# Altium footprint library 1N414WT.PcbLib: 3 footprints
Each footprint in its own frame and in the unit in brackets; x right, y up, seen from the top. Pads: shape width x height; smd on the part's side, far side on the other; paste and mask are expansions set on the pad; w line width, h text height; cw(c..) or ccw(c..) is an arc to the next point about the centre after c.
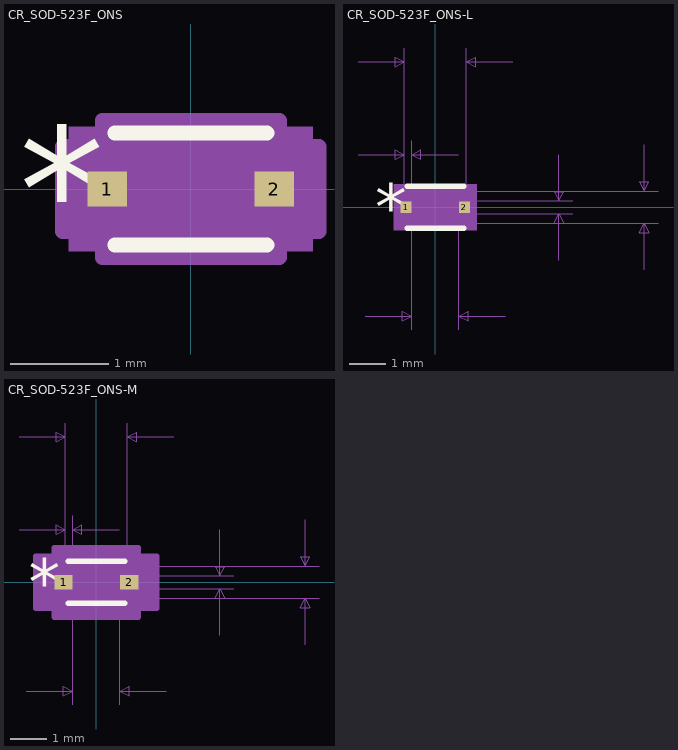
[diagram p0: the footprints below, top view; thin cyan lines are the x and y axes]

## CR_SOD-523F_ONS [mil]
pads (2):
  rect 15.87x14 smd paste+0 mask+0: 1(-33.44,0) 2(33.44,0)
Top Overlay:
  lines w6: -30.5,-22.5 30.5,-22.5 ; -30.5,22.5 30.5,22.5
  text "*" at -68.87,-25 h50
Mechanical 5:
  region: 48.87,-25 -48.87,-25 -48.87,25 48.87,25
Mechanical 13:
  lines w1: -25.5,-8.75 -16.75,-17.5 ; -25.5,8.75 -16.75,17.5 ; -33.5,-7 -25.5,-7 -25.5,7 -33.5,7 -33.5,-7 ; -25.5,-17.5 -25.5,17.5 25.5,17.5 25.5,-17.5 -25.5,-17.5 ; 25.5,-7 33.5,-7 33.5,7 25.5,7 25.5,-7
  text "*" at -28,-25 h50
Mechanical 15:
  region: -35.5,-17 -51.37,-17 -51.37,17 -35.5,17 -35.5,27.5 35.5,27.5 35.5,17 51.37,17 51.37,-17 35.5,-17 35.5,-27.5 -35.5,-27.5
  lines w6: -51.37,-17 -35.5,-17 -35.5,-27.5 35.5,-27.5 35.5,-17 51.37,-17 51.37,17 35.5,17 35.5,27.5 -35.5,27.5 -35.5,17 -51.37,17 -51.37,-17
3D body "CR_SOD-523F_ONS.step": height 28.27, standoff 0, extent -33.5,-17.48 33.51,17.48
3D body: height 10, standoff 0, extent 0,0 10,10

## CR_SOD-523F_ONS-L [mil]
pads (2):
  rect 11.94x12.03 smd paste+0 mask+0: 1(-31.47,0) 2(31.47,0)
Top Overlay:
  lines w6: -30.5,-22.5 30.5,-22.5 ; -30.5,22.5 30.5,22.5
  text "*" at -64.94,-25 h50
Mechanical 5:
  region: 44.94,-25 -44.94,-25 -44.94,25 44.94,25
Mechanical 7:
  lines w1: -83.5,57 -33.5,57 ; -83.5,157 -33.5,157 ; -75.5,-117.5 -25.5,-117.5 ; -33.5,72 -33.5,0 -33.5,172 ; -25.5,-132.5 -25.5,0 -25.5,72 ; 0,-17.5 240.5,-17.5 ; 0,17.5 240.5,17.5 ; 24.5,57 -25.5,57 ; 25.5,-132.5 25.5,0 ; 33.5,-7 148.5,-7 ; 33.5,0 33.5,172 ; 33.5,7 148.5,7 ; 75.5,-117.5 25.5,-117.5 ; 83.5,157 33.5,157 ; 133.5,-57 133.5,-7 ; 133.5,57 133.5,7 ; 225.5,-67.5 225.5,-17.5 ; 225.5,67.5 225.5,17.5 ; -33.5,57 -43.5,62 -43.5,52 -33.5,57 ; -33.5,157 -43.5,162 -43.5,152 -33.5,157 ; -25.5,-117.5 -35.5,-112.5 -35.5,-122.5 -25.5,-117.5 ; -25.5,57 -15.5,62 -15.5,52 -25.5,57 ; 25.5,-117.5 35.5,-112.5 35.5,-122.5 25.5,-117.5 ; 33.5,157 43.5,162 43.5,152 33.5,157 ; 133.5,-7 128.5,-17 138.5,-17 133.5,-7 ; 133.5,7 128.5,17 138.5,17 133.5,7 ; 225.5,-17.5 220.5,-27.5 230.5,-27.5 225.5,-17.5 ; 225.5,17.5 220.5,27.5 230.5,27.5 225.5,17.5
  text "Default Padstyle: r30_31" at -300,-331.02 h50
  text "Alt 1 Padstyle: b152_229h76" at -337.5,-406.02 h50
  text "Alt 2 Padstyle: b229_152h76" at -337.5,-481.02 h50
  text "0.067in/1.702mm" at -93.75,177 h25
  text "0.008in/0.203mm" at -123.25,77 h25
  text "0.014in/0.356mm" at 153.5,-12.5 h25
  text "0.035in/0.889mm" at 245.5,-12.5 h25
  text "0.051in/1.295mm" at -93.75,-162.5 h25
Mechanical 13:
  lines w1: -25.5,-8.75 -16.75,-17.5 ; -25.5,8.75 -16.75,17.5 ; -33.5,-7 -33.5,7 -25.5,7 -25.5,-7 -33.5,-7 ; -25.5,-17.5 25.5,-17.5 25.5,17.5 -25.5,17.5 -25.5,-17.5 ; 25.5,-7 25.5,7 33.5,7 33.5,-7 25.5,-7
  text "*" at -28,-25 h50
Mechanical 15:
  region: -29.5,-10.02 -41.44,-10.02 -41.44,10.02 -29.5,10.02 -29.5,21.5 29.5,21.5 29.5,10.02 41.44,10.02 41.44,-10.02 29.5,-10.02 29.5,-21.5 -29.5,-21.5
  lines w6: -41.44,-10.02 -41.44,10.02 -29.5,10.02 -29.5,21.5 29.5,21.5 29.5,10.02 41.44,10.02 41.44,-10.02 29.5,-10.02 29.5,-21.5 -29.5,-21.5 -29.5,-10.02 -41.44,-10.02
3D body: height 10, standoff 0, extent 0,0 10,10
3D body "CR_SOD-523F_ONS-L.step": height 28.27, standoff 0, extent -33.5,-17.48 33.51,17.48

## CR_SOD-523F_ONS-M [mil]
pads (2):
  rect 19.81x15.97 smd paste+0 mask+0: 1(-35.41,0) 2(35.41,0)
Top Overlay:
  lines w6: -30.5,-22.5 30.5,-22.5 ; -30.5,22.5 30.5,22.5
  text "*" at -72.81,-25 h50
Mechanical 5:
  region: 52.81,-25 -52.81,-25 -52.81,25 52.81,25
Mechanical 7:
  lines w1: -83.5,57 -33.5,57 ; -83.5,157 -33.5,157 ; -75.5,-117.5 -25.5,-117.5 ; -33.5,72 -33.5,0 -33.5,172 ; -25.5,-132.5 -25.5,0 -25.5,72 ; 0,-17.5 240.5,-17.5 ; 0,17.5 240.5,17.5 ; 24.5,57 -25.5,57 ; 25.5,-132.5 25.5,0 ; 33.5,-7 148.5,-7 ; 33.5,0 33.5,172 ; 33.5,7 148.5,7 ; 75.5,-117.5 25.5,-117.5 ; 83.5,157 33.5,157 ; 133.5,-57 133.5,-7 ; 133.5,57 133.5,7 ; 225.5,-67.5 225.5,-17.5 ; 225.5,67.5 225.5,17.5 ; -33.5,57 -43.5,52 -43.5,62 -33.5,57 ; -33.5,157 -43.5,152 -43.5,162 -33.5,157 ; -25.5,-117.5 -35.5,-122.5 -35.5,-112.5 -25.5,-117.5 ; -25.5,57 -15.5,52 -15.5,62 -25.5,57 ; 25.5,-117.5 35.5,-122.5 35.5,-112.5 25.5,-117.5 ; 33.5,157 43.5,152 43.5,162 33.5,157 ; 133.5,-7 138.5,-17 128.5,-17 133.5,-7 ; 133.5,7 138.5,17 128.5,17 133.5,7 ; 225.5,-17.5 230.5,-27.5 220.5,-27.5 225.5,-17.5 ; 225.5,17.5 230.5,27.5 220.5,27.5 225.5,17.5
  text "0.051in/1.295mm" at -93.75,-162.5 h25
  text "0.035in/0.889mm" at 245.5,-12.5 h25
  text "0.014in/0.356mm" at 153.5,-12.5 h25
  text "0.008in/0.203mm" at -123.25,77 h25
  text "0.067in/1.702mm" at -93.75,177 h25
  text "Alt 2 Padstyle: b229_152h76" at -337.5,-482.98 h50
  text "Alt 1 Padstyle: b152_229h76" at -337.5,-407.98 h50
  text "Default Padstyle: r50_41" at -300,-332.98 h50
Mechanical 13:
  lines w1: -25.5,-8.75 -16.75,-17.5 ; -25.5,8.75 -16.75,17.5 ; -33.5,-7 -25.5,-7 -25.5,7 -33.5,7 -33.5,-7 ; -25.5,-17.5 -25.5,17.5 25.5,17.5 25.5,-17.5 -25.5,-17.5 ; 25.5,-7 33.5,-7 33.5,7 25.5,7 25.5,-7
  text "*" at -28,-25 h50
Mechanical 15:
  region: -45.5,-27.98 -65.31,-27.98 -65.31,27.98 -45.5,27.98 -45.5,37.5 45.5,37.5 45.5,27.98 65.31,27.98 65.31,-27.98 45.5,-27.98 45.5,-37.5 -45.5,-37.5
  lines w6: -65.31,-27.98 -45.5,-27.98 -45.5,-37.5 45.5,-37.5 45.5,-27.98 65.31,-27.98 65.31,27.98 45.5,27.98 45.5,37.5 -45.5,37.5 -45.5,27.98 -65.31,27.98 -65.31,-27.98
3D body "CR_SOD-523F_ONS-M.step": height 28.27, standoff 0, extent -33.5,-17.48 33.51,17.48
3D body: height 10, standoff 0, extent 0,0 10,10